# Altium footprint library WF-3R.PcbLib: 1 footprints
Each footprint in its own frame and in the unit in brackets; x right, y up, seen from the top. Pads: shape width x height; smd on the part's side, far side on the other; paste and mask are expansions set on the pad; w line width, h text height; cw(c..) or ccw(c..) is an arc to the next point about the centre after c.
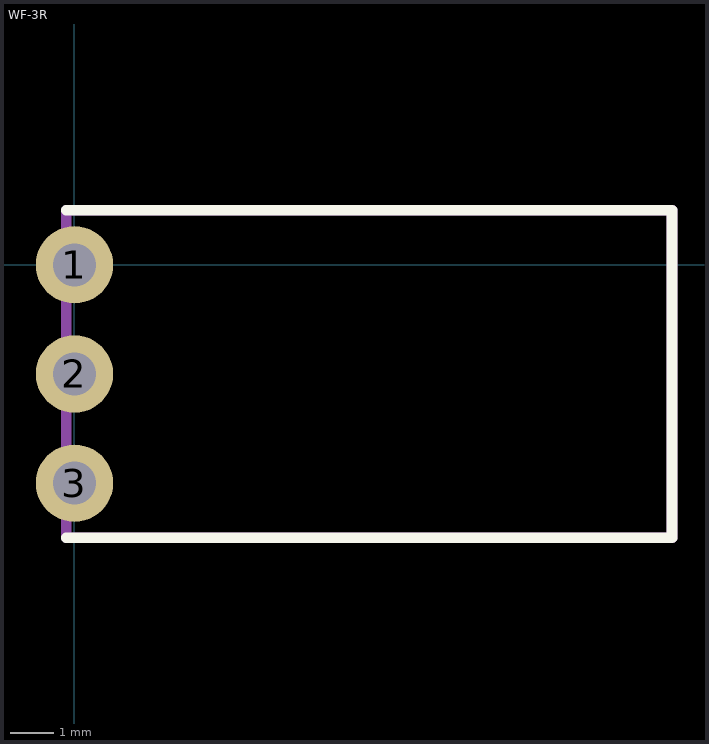
[diagram p0: the footprint, top view; thin cyan lines are the x and y axes]

## WF-3R [mm]
pads (3):
  round 1.8 hole 1: 1(0,0) 2(0,-2.54) 3(0,-5.08)
Top Overlay:
  lines w0.254: -0.192,-6.35 13.908,-6.35 13.908,1.27 -0.192,1.27
TopAssy:
  lines w0.254: -0.192,-6.35 -0.192,1.27 13.908,1.27 13.908,-6.35 -0.192,-6.35
3D body "User Library-DS1070-3MR (WF-3RA CONNFLY).step": height 5.9, standoff -3.4, extent -0.192,-6.35 13.908,1.27